# Altium footprint library MAX32IC.PcbLib: 1 footprints
Each footprint in its own frame and in the unit in brackets; x right, y up, seen from the top. Pads: shape width x height; smd on the part's side, far side on the other; paste and mask are expansions set on the pad; w line width, h text height; cw(c..) or ccw(c..) is an arc to the next point about the centre after c.
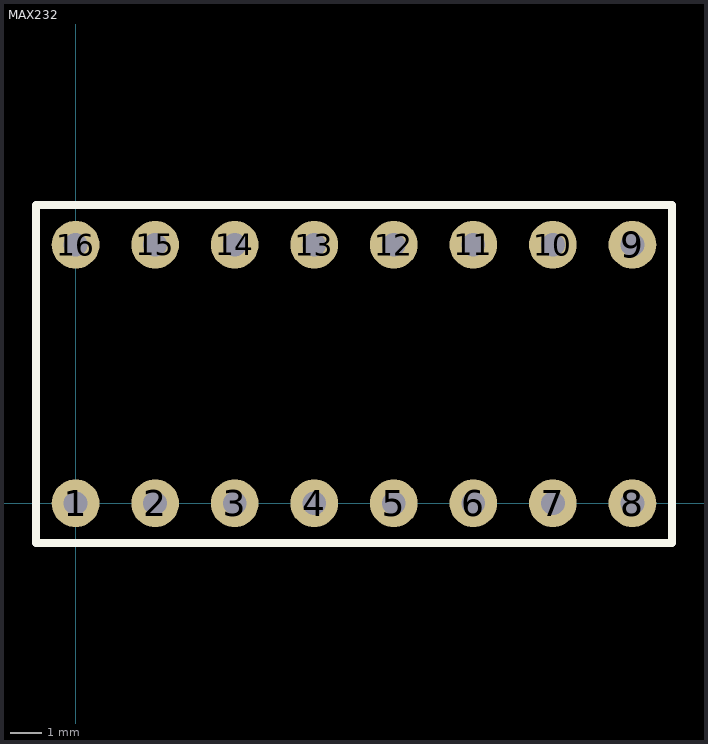
[diagram p0: the footprint, top view; thin cyan lines are the x and y axes]

## MAX232 [mil]
pads (16):
  round 60 hole 30: 1(0,0) 2(100,0) 3(200,0) 4(300,0) 5(400,0) 6(500,0) 7(600,0) 8(700,0) 9(700,325) 10(600,325) 11(500,325) 12(400,325) 13(300,325) 14(200,325) 15(100,325) 16(0,325)
Top Overlay:
  lines w10: -50,-50 750,-50 750,375 -50,375 -50,-50